# Altium footprint library CRT1206-BY-1002ELF.PcbLib: 2 footprints
Each footprint in its own frame and in the unit in brackets; x right, y up, seen from the top. Pads: shape width x height; smd on the part's side, far side on the other; paste and mask are expansions set on the pad; w line width, h text height; cw(c..) or ccw(c..) is an arc to the next point about the centre after c.
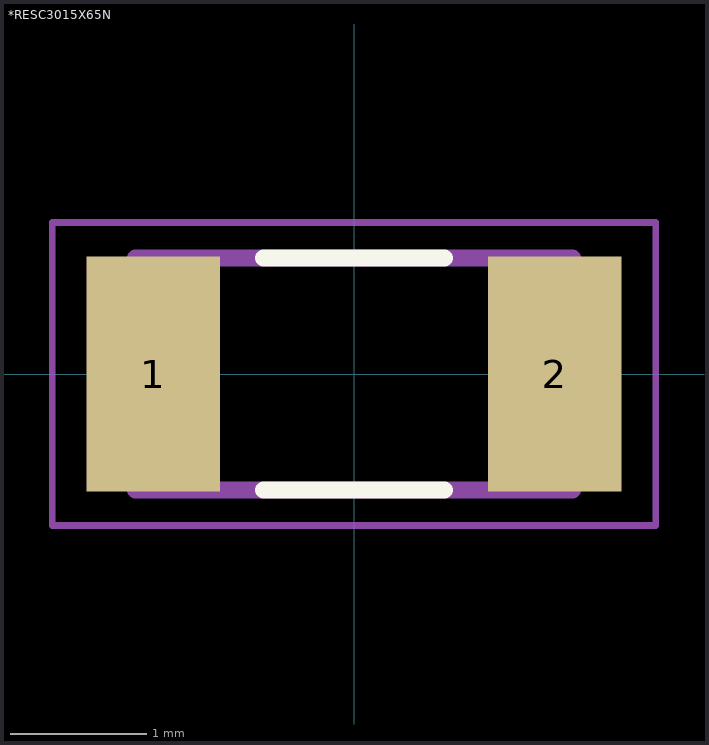
[diagram p0: the footprints below, top view; thin cyan lines are the x and y axes]

## *RESC3015X65N [mm]
pads (2):
  rect 0.98x1.72 smd: 1(-1.47,0) 2(1.47,0)
Top Overlay:
  lines w0.127: -0.66,-0.85 0.66,-0.85 ; -0.66,0.85 0.66,0.85
Mechanical 4:
  lines w0.127: -1.6,-0.85 -1.6,0.85 ; -1.6,-0.85 1.6,-0.85 ; -1.6,-0.85 -1.6,0.85 ; -1.6,-0.85 1.6,-0.85 ; -1.6,0.85 1.6,0.85 ; -1.6,0.85 1.6,0.85 ; 1.6,-0.85 1.6,0.85 ; 1.6,-0.85 1.6,0.85
Mechanical 16:
  lines w0.05: -2.21,-1.11 -2.21,1.11 2.21,1.11 2.21,-1.11 -2.21,-1.11

## PCBComponent_1 [mm]